# EAGLE library part IS25LP016D-JNLE-TR (library ICs)
16Mb SERIAL FLASH MEMORY WITH 133MHZ MULTI I/O SPI & QUAD I/O QPI DTR INTERFACE
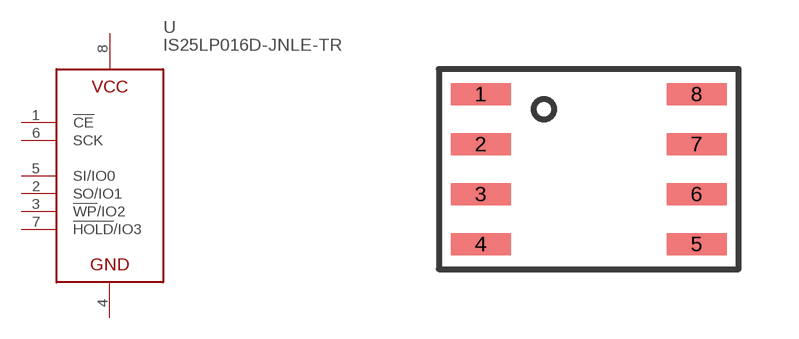
[diagram p194: symbol with the pads of SO8; footprint SO8]

Designator prefix U

## IS25LP016D-JNLE-TR (DIGIKEY: 706-1602-1-ND; HEIGHT: 2; PRICE_PER: 0.98; VALUE: IS25LP016D)  [SO8]
1  !CE
2  SO/IO1
3  !WP!/IO2
4  GND
5  SI/IO0
6  SCK
7  !HOLD!/IO3
8  VCC

## Footprint SO8 (pad centres in mm)
smd 1.5 x 0.55: 1 -2.7,1.875; 2 -2.7,0.625; 3 -2.7,-0.625; 4 -2.7,-1.875; 5 2.7,-1.875; 6 2.7,-0.625; 7 2.7,0.625; 8 2.7,1.875